# Altium schematic symbol library T-MIXRF.SCHLIB: 1 symbol
Pins are listed as number, name and electrical type; pins without a type are passive.

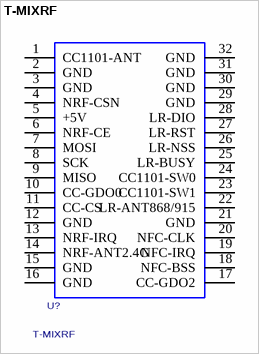
[diagram p0: symbol T-MIXRF]

## T-MIXRF
designator U?
PCB DECAL: MIXRF
footprint MIXRF
pins: 1 CC1101-ANT, 2 GND, 3 GND, 4 NRF-CSN, 5 +5V, 6 NRF-CE, 7 MOSI, 8 SCK, 9 MISO, 10 CC-GDO0, 11 CC-CS, 12 GND, 13 NRF-IRQ, 14 NRF-ANT2.4G, 15 GND, 16 GND, 17 CC-GDO2, 18 NFC-BSS, 19 NFC-IRQ, 20 NFC-CLK, 21 GND, 22 LR-ANT868/915, 23 CC1101-SW1, 24 CC1101-SW0, 25 LR-BUSY, 26 LR-NSS, 27 LR-RST, 28 LR-DIO, 29 GND, 30 GND, 31 GND, 32 GND